# Altium schematic symbol library DrumPad.SCHLIB: 35 symbols
Pins are listed as number, name and electrical type; pins without a type are passive.

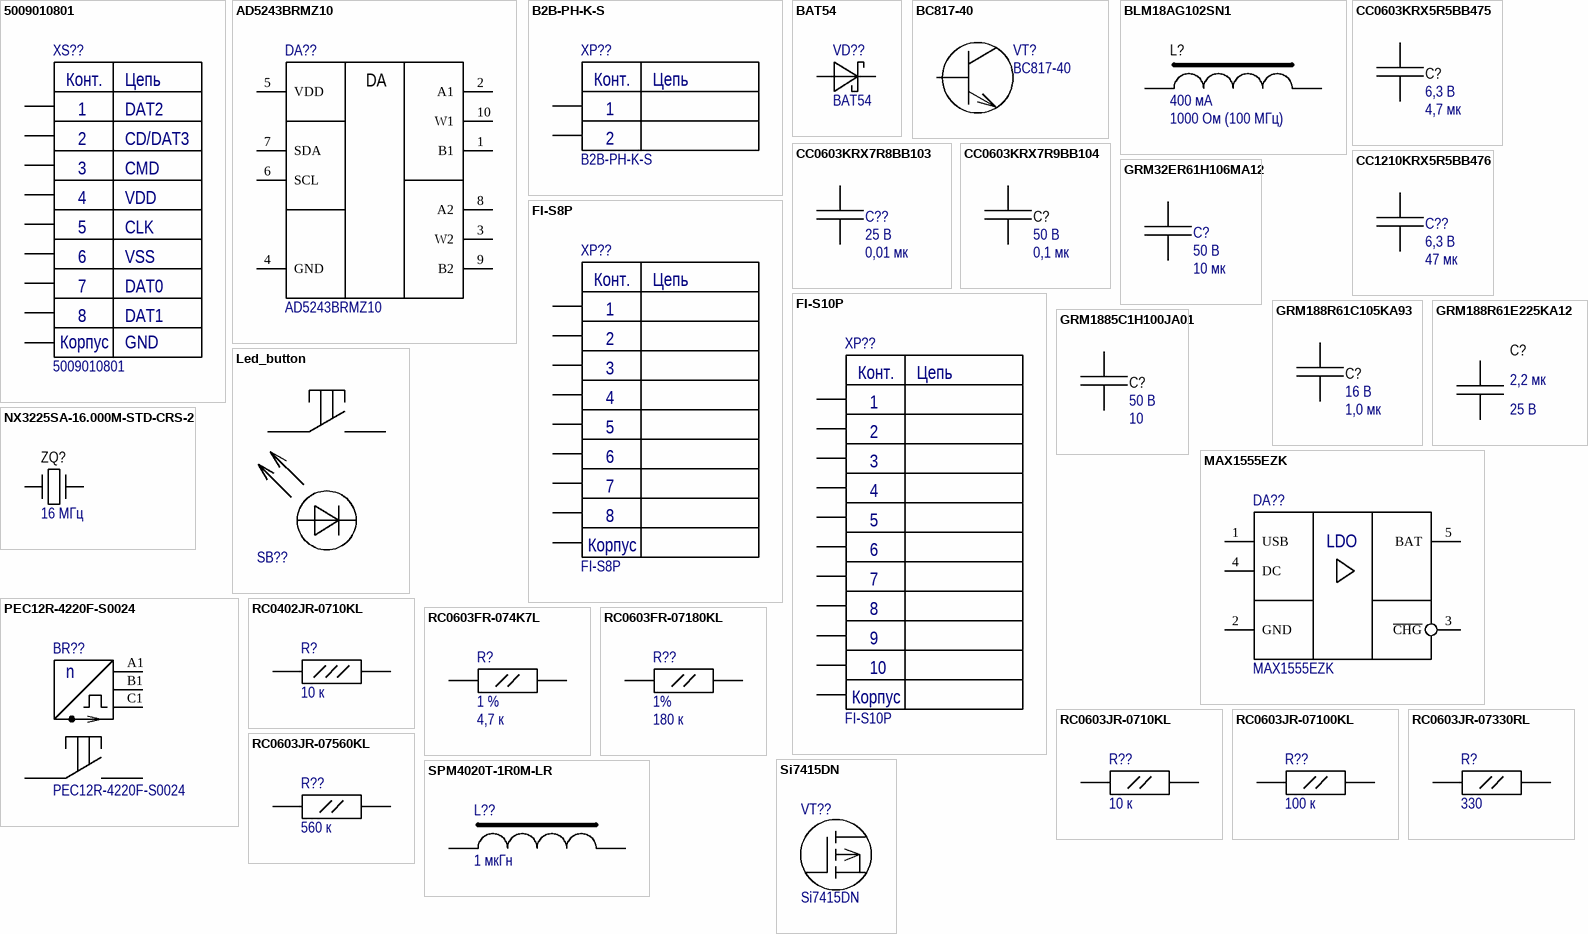
[diagram p0: symbols 5009010801 to SPM4020T-1R0M-LR]

## 5009010801
designator XS??
1.10mm Pitch TransFlash Memory Card Connector, Hinge Type, Round Corner Top; Manufacturer: Molex; Connector type: Разъем MicroSD на плату; Number of contacts: 11; Type: Разъем
footprint MOLEX 5009010801 (Molex microSD connector)
pins: 0, 1, 2, 3, 4, 5, 6, 7, 8
text: Конт.; Цепь; DAT2; CD/DAT3; CMD; VDD; CLK; VSS; DAT0; DAT1; Корпус; GND

## AD5243BRMZ10
designator DA??
2-channel, 256-position potentiometers; Manufacturer: Analog Devices; Supply voltage: 2.7... 5.5 В; Output current: 1 А; End-to-end resistance: 10 кОм; Type: Цифровой потенциометр; Temperature range: -40 ... 125 °C
footprint MSOP-10 (10-Lead Mini Small Outline Package)
pins: 1 B1, 2 A1, 3 W2, 4 GND, 5 VDD, 6 SCL, 7 SDA, 8 A2, 9 B2, 10 W1
text: DA

## B2B-PH-K-S
designator XP??
PH connector; Manufacturer: JST; Type: Вилка на плату
footprint B2B-PH-K-S (PH connector)
pins: 1, 2
text: Конт.; Цепь

## BAT54
designator VD??
Schottky Diode; Manufacturer: Fairchild Semiconductor; Type: Диод Шоттки; Max forward average current: 200 мА; Max reverse voltage: 30 В; Forward voltage: 0,8 В; Specification: ЭКБ ИП; Max forward surge current: 600 мА; Temperature range: -55 ... 150 °C
footprint SOT-23
pins: 1 A, 2 NC hidden, 3 C

## BC817-40
designator VT?
NPN general-purpose transistor; Manufacturer: NXP; Structure: n-p-n; Type: Транзистор биполярный; hFE: 250 ... 600; Max collector-emitter voltage: 45 В; Max collector-base voltage: 50 В; Max emitter-base voltage: 5 В; Max collector current: 0,5 А; Max collector peak current: 1 А; Power dissitipation: 0,25 Вт; fT: 100 МГц; Collector-emitter saturation voltage: 0,7 В; Base-emitter on voltage: 1,2 В; Specitication: ЭКБ ИП; Collector-base сapacitance: 3 пФ; Complement: BC807-40; Temperature range: -65 ... 150 °C
footprint SOT-23
pins: 1 B, 2 E, 3 C

## BLM18AG102SN1
designator L?  value 1000 Ом (100 МГц)  Rated current: 400 мА  (hidden comment: BLM18AG102SN1)
Chip Ferrite Bead; Manufacturer: Murata Manufacturing; Tolerance: 25%; DC resistance: 500 мОм; Type: Ферритовая бусина; Size: 0603; Temperature range: -55 ... 125 °C
footprint FB_0603_Manual_mount (SMD 0603)
footprint FB_0603_Auto_mount (SMD 0603)
pins: 1, 2

## CC0603KRX5R5BB475
designator C?  value 4,7 мк  Rated voltage: 6,3 В  (hidden comment: CC0603KRX5R5BB475)
Surface-mount Ceramic Multilayer Capacitor; Manufacturer: YAGEO; Tolerance: 10 %; Temperature coefficient: ±15 %; Type: Конденсатор керамический; TC: X5R; Size: 0603; Temperature range: -55 ... 85 °C
footprint C_0603_Auto_mount
footprint C_0603_Manual_mount
pins: 1, 2

## CC0603KRX7R8BB103
designator C??  value 0,01 мк  Rated voltage: 25 В  (hidden comment: CC0603KRX7R8BB103)
Surface-mount Ceramic Multilayer Capacitor; Manufacturer: YAGEO; Tolerance: 10 %; Temperature coefficient: ±15 %; Type: Конденсатор керамический; TC: X7R; Size: 0603; Temperature range: -55 ... 125 °C
footprint C_0603_Auto_mount
footprint C_0603_Manual_mount
pins: 1, 2

## CC0603KRX7R9BB104
designator C?  value 0,1 мк  Rated voltage: 50 В  (hidden comment: CC0603KRX7R9BB104)
Surface-mount Ceramic Multilayer Capacitor; Manufacturer: YAGEO; Tolerance: 10 %; Temperature coefficient: ±15 %; Type: Конденсатор керамический; TC: X7R; Size: 0603; Temperature range: -55 ... 125 °C
footprint C_0603_Auto_mount
footprint C_0603_Manual_mount
pins: 1, 2

## CC1210KRX5R5BB476
designator C??  value 47 мк  Rated voltage: 6,3 В  (hidden comment: CC1210KRX5R5BB476)
Surface-mount Ceramic Multilayer Capacitor; Manufacturer: YAGEO; Tolerance: 10 %; Temperature coefficient: ±15 %; Type: Конденсатор керамический; TC: X5R; Size: 1210; Temperature range: -55 ... 85 °C
footprint C_1210_Auto_mount
footprint C_1210_Manual_mount
pins: 1, 2

## FI-S8P
designator XP??
FI connector; Manufacturer: JAE; Type: Вилка высокой плотности на плату
footprint FI-S8P (1.25mm-pitch 8-pin connector)
pins: 0, 1, 2, 3, 4, 5, 6, 7, 8
1 alternate drawing of the same symbol
text: Конт.; Цепь; Корпус

## FI-S10P
designator XP??
FI connector; Manufacturer: JAE; Type: Вилка высокой плотности на плату
footprint FI-S10P (1.25mm-pitch 10-pin connector)
pins: 0, 1, 2, 3, 4, 5, 6, 7, 8, 9, 10
1 alternate drawing of the same symbol
text: Конт.; Цепь; Корпус

## GRM32ER61H106MA12
designator C?  value 10 мк  Rated voltage: 50 В  (hidden comment: GRM32ER61H106MA12)
Chip Monolithic Ceramic Capacitor; Manufacturer: Murata Manufacturing; Tolerance: 0,2; Temperature coefficient: ±15 %; Type: Конденсатор керамический; TC: X5R; Size: 1210; Temperature range: -55 ... 85 °C
footprint C_1210_Auto_mount (SMD 1210)
footprint C_1210_Manual_mount (SMD 1210)
pins: 1, 2

## GRM188R61C105KA93
designator C?  value 1,0 мк  Rated voltage: 16 В  (hidden comment: GRM188R61C105KA93)
Chip Monolithic Ceramic Capacitor; Manufacturer: Murata Manufacturing; Tolerance: 0,1; Temperature coefficient: ±15 %; Type: Конденсатор керамический; TC: X5R; Size: 0603; Temperature range: -55 ... 85 °C
footprint C_0603_Auto_mount
footprint C_0603_Manual_mount
pins: 1, 2

## GRM188R61E225KA12
designator C?  value 2,2 мк  Rated voltage: 25 В  (hidden comment: GRM188R61E225KA12)
Chip Monolithic Ceramic Capacitor; Manufacturer: Murata Manufacturing; Tolerance: 0,1; Temperature coefficient: ±15 %; Type: Конденсатор керамический; TC: X5R; Size: 0603; Temperature range: -55 ... 85 °C
footprint C_0603_Auto_mount
footprint C_0603_Manual_mount
pins: 1, 2

## GRM1885C1H100JA01
designator C?  value 10  Rated voltage: 50 В  (hidden comment: GRM1885C1H100JA01)
Chip Monolithic Ceramic Capacitor; Manufacturer: Murata Manufacturing; Tolerance: 0,05; Temperature coefficient: ±30 ppm/°C; Type: Конденсатор керамический; TC: C0G; Size: 0603; Temperature range: -55 ... 125 °C
footprint C_0603_Auto_mount
footprint C_0603_Manual_mount
pins: 1, 2

## Led_button
designator SB??  (value not drawn)
Кнопка с встроенным светодиодом; Manufacturer: NONAME; Junction resistance: 100 мОм; Rated voltage: 12 В; Rated current: 50 мА; Life cycles: 100000; Type: Выключатель кнопочный с самовозвратом
footprint Led_button (Кнопка с встроеным светодиодом)
pins: 1, 2, 3, 4

## MAX1555EZK
designator DA??
1S Li-Po/Li-Ion charger; Manufacturer: maxim integrated; Input voltage: 3,7 ... 7 В; Output current: DC280/USB90; Battery type: Li-Ion/Li-Poly; Number of cells: 1; Type: Контроллер АКБ; Temperature range: -40 ... 85 °C
footprint SOT-23-5 (SOT-23)
pins: 1 USB, 2 GND, 3 ~{CHG}, 4 DC, 5 BAT
text: LDO

## NX3225SA-16.000M-STD-CRS-2
designator ZQ?  value 16 МГц  (hidden comment: NX3225SA-16.000M-STD-CRS-2)
QUARTZ CRYSTAL; Manufacturer: NDK; Load capacitance: 8 пФ; Frequency stability: ±15 ppm; Type: Кварцевый резонатор; Temperature range: -40 ... 125 °C
footprint NX3225SA
pins: 1 XI, 2 NC hidden, 3 XO, 4 NC hidden

## PEC12R-4220F-S0024
designator BR??
Encoder; Manufacturer: /Укажите компанию-производителя/; Num of pulses: 24; Type: Энкодер инкрементальный; Num of detends: 24
footprint PEC12R4220FS0024
pins: 1, 2, A1, B1, C1
text: n

## RC0402JR-0710KL
designator R?  value 10 к  (hidden comment: RC0402JR-0710KL)
General Purpose Chip Resistor; Manufacturer: YAGEO; Tolerance: 5 %; Power dissitipation: 0,0625 Вт; Temperature coefficient: ±100 ppm/°C; Size: 0402; Temperature range: -55 ... 155 °C; Type: Резистор постоянный; Part Number: RC0402JR-0710KL
footprint R_0402_Auto_mount
footprint R_0402_Manual_mount
pins: 1, 2

## RC0603FR-074K7L
designator R?  value 4,7 к  Tolerance: 1 %  (hidden comment: RC0603FR-074K7L)
General Purpose Chip Resistor; Manufacturer: YAGEO; Power dissipation: 0,1 Вт; Temperature coefficient: ±100 ppm/°C; Size: 0603; Temperature range: -55 ... 155 °C; Type: Резистор постоянный; Part Number: RC0603FR-074K7L
footprint R_0603_Manual_mount (SMD 0603)
footprint R_0603_Auto_mount
pins: 1, 2

## RC0603FR-07180KL
designator R??  value 180 к  Tolerance: 1%  (hidden comment: RC0603FR-07180KL)
General Purpose Chip Resistor; Manufacturer: YAGEO; Power dissitipation: 0,1 Вт; Temperature coefficient: ±100 ppm/°C; Size: 0603; Temperature range: -55 ... 155 °C; Type: Резистор постоянный
footprint R_0603_Auto_mount (SMD 0603)
footprint R_0603_Manual_mount (SMD 0603)
pins: 1, 2

## RC0603JR-0710KL
designator R??  value 10 к  (hidden comment: RC0603JR-0710KL)
General Purpose Chip Resistor; Manufacturer: YAGEO; Tolerance: 5 %; Power dissitipation: 0,1 Вт; Temperature coefficient: ±100 ppm/°C; Size: 0603; Temperature range: -55 ... 155 °C; Type: Резистор постоянный
footprint R_0603_Auto_mount
footprint R_0603_Manual_mount
pins: 1, 2

## RC0603JR-07100KL
designator R??  value 100 к  (hidden comment: RC0603JR-07100KL)
General Purpose Chip Resistor; Manufacturer: YAGEO; Tolerance: 5 %; Power dissitipation: 0,1 Вт; Temperature coefficient: ±100 ppm/°C; Size: 0603; Temperature range: -55 ... 155 °C; Type: Резистор постоянный
footprint R_0603_Auto_mount
footprint R_0603_Manual_mount
pins: 1, 2

## RC0603JR-07330RL
designator R?  value 330  (hidden comment: RC0603JR-07330RL)
General Purpose Chip Resistor; Manufacturer: YAGEO; Tolerance: 5 %; Power dissitipation: 0,1 Вт; Temperature coefficient: ±100 ppm/°C; Size: 0603; Temperature range: -55 ... 155 °C; Type: Резистор постоянный
footprint R_0603_Auto_mount (SMD 0603)
footprint R_0603_Manual_mount (SMD 0603)
pins: 1, 2

## RC0603JR-07560KL
designator R??  value 560 к  (hidden comment: RC0603JR-07560KL)
General Purpose Chip Resistor; Manufacturer: YAGEO; Tolerance: 5 %; Power dissitipation: 0,1 Вт; Temperature coefficient: ±100 ppm/°C; Size: 0603; Temperature range: -55 ... 155 °C; Type: Резистор постоянный
footprint R_0603_Auto_mount
footprint R_0603_Manual_mount
pins: 1, 2

## Si7415DN
designator VT??
P-Channel Enhancement Mode Field Effect Transistor; Manufacturer: Vishay; Structure: Индуцированный канал p-типа; Type: Транзистор полевой с изолированным затвором; Max gate-to-source voltage: 20 В; Drain-to-source breakdown voltage: 60 В; Gate threshold voltage: 3В; Max continuous drain current: 5.7A; Max pulsed drain current: 20 A; Power dissitipation: 3.8 Вт; Input capacitance: 600 пФ; Output capacitance: 70пФ; Turn-on time: 50 нс; Reverse transfer capacitance: 50 пФ; Rds: 0.065 Ом; Temperature range: -55 ... 170°C; Turn-off time: 50 нс
footprint PowerPAK-1212-8
pins: D, G, S

## SPM4020T-1R0M-LR
designator L??  value 1 мкГн  (hidden comment: SPM4020T-1R0M-LR)
Shielded Power Inductor; Manufacturer: TDK; Tolerance: 20%; DC resistance: 28мОм; Type: Индуктивность силовая; Test frequency: 100КГц; Rated current: 9 А; Saturation current: 5.6 А; Size: 4.4x4.1x2.0 мм; Temperature range: -40 ... 125°C
footprint SRR4028
pins: 1, 2

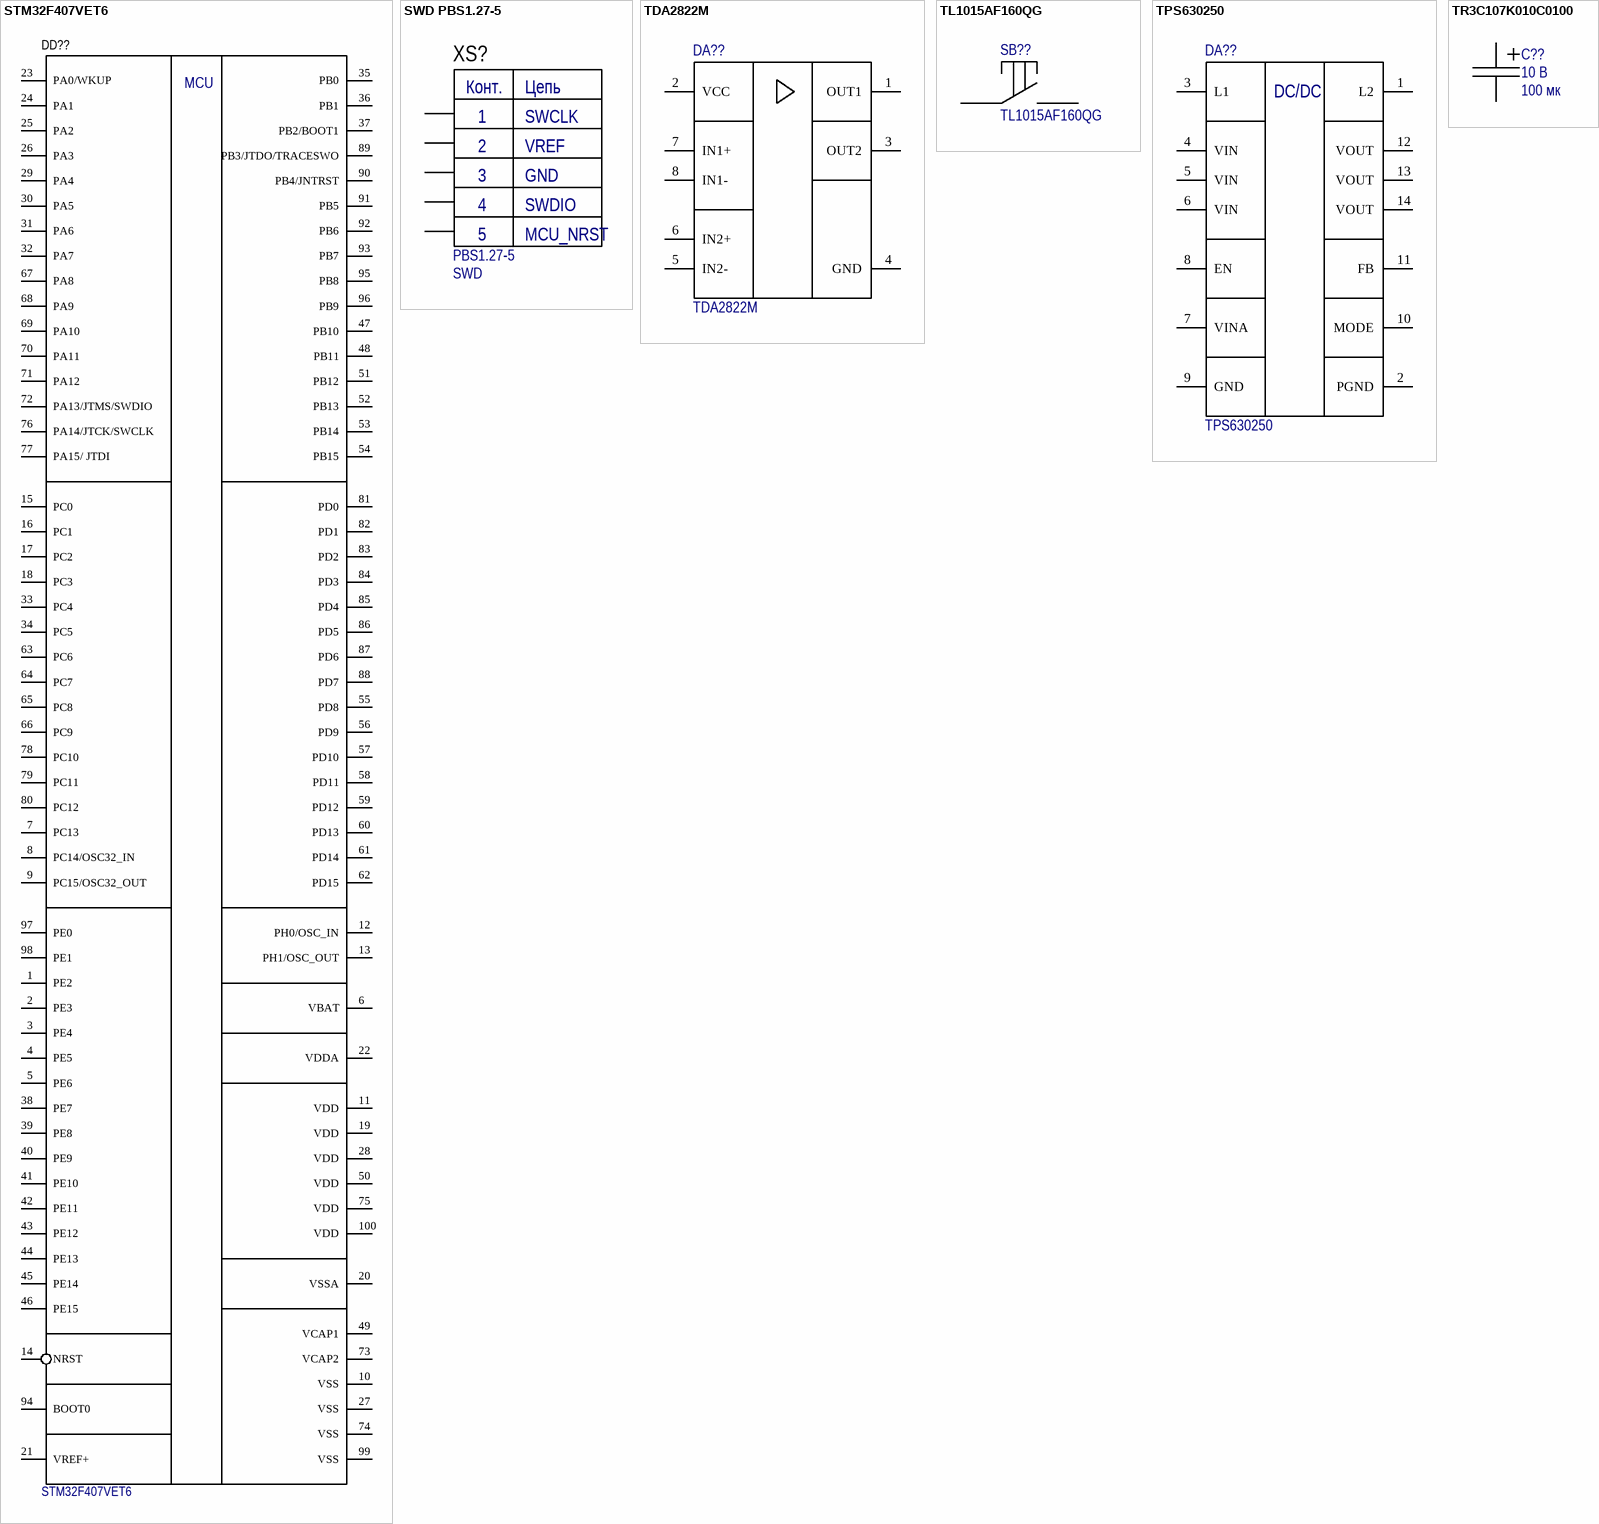
[diagram p1: symbols STM32F407VET6 to TR3C107K010C0100]

## STM32F407VET6
designator DD??
ARM Cortex-M4 32b MCU+FPU, 210DMIPS, up to 1MB Flash/192+4KB RAM,  crypto, USB OTG HS/FS, Ethernet, 17 TIMs, 3 ADCs, 15 comm. interfaces & camera; Manufacturer: STMicroelectronics; Flash: 1024 кбайт; SRAM: 192+4 кбайт; Timers: 10+2+2; RTC: Есть; SPI/I2S: 3/2; I2C: 3; USART/UART: 4/2; CAN: 2; Ethernet: Нет; ADC resolution: 12 бит; ADC channels: 16; CPU frequency: 168 МГц; Supply voltage: 1,8 ... 3,6 В; Type: Микроконтроллер; Processor architecture: ARM Cortex-M4; USB OTG FS: Есть; USB OTG HS: Есть; SDIO: Есть; Camera interface: Нет; Cryptography: Есть; ADC: 3; DAC resolution: 12 бит; DAC: 2; Temperature range: -40 ... 85 °C; FSMC: Есть; Random number generator: Есть; FPU: Есть; DSP: Есть; DMA: Есть; MPU: Есть
footprint LQFP-100 (14 x 14 mm 100 pin low-profile quad flat package outline)
pins: 1 PE2, 2 PE3, 3 PE4, 4 PE5, 5 PE6, 6 VBAT, 7 PC13, 8 PC14/OSC32_IN, 9 PC15/OSC32_OUT, 10 VSS, 11 VDD, 12 PH0/OSC_IN, 13 PH1/OSC_OUT, 14 NRST, 15 PC0, 16 PC1, 17 PC2, 18 PC3, 19 VDD, 20 VSSA, 21 VREF+, 22 VDDA, 23 PA0/WKUP, 24 PA1, 25 PA2, 26 PA3, 27 VSS, 28 VDD, 29 PA4, 30 PA5, 31 PA6, 32 PA7, 33 PC4, 34 PC5, 35 PB0, 36 PB1, 37 PB2/BOOT1, 38 PE7, 39 PE8, 40 PE9, 41 PE10, 42 PE11, 43 PE12, 44 PE13, 45 PE14, 46 PE15, 47 PB10, 48 PB11, 49 VCAP1, 50 VDD, 51 PB12, 52 PB13, 53 PB14, 54 PB15, 55 PD8, 56 PD9, 57 PD10, 58 PD11, 59 PD12, 60 PD13, 61 PD14, 62 PD15, 63 PC6, 64 PC7, 65 PC8, 66 PC9, 67 PA8, 68 PA9, 69 PA10, 70 PA11, 71 PA12, 72 PA13/JTMS/SWDIO, 73 VCAP2, 74 VSS, 75 VDD, 76 PA14/JTCK/SWCLK, 77 PA15/ JTDI, 78 PC10, 79 PC11, 80 PC12, 81 PD0, 82 PD1, 83 PD2, 84 PD3, 85 PD4, 86 PD5, 87 PD6, 88 PD7, 89 PB3/JTDO/TRACESWO, 90 PB4/JNTRST, 91 PB5, 92 PB6, 93 PB7, 94 BOOT0, 95 PB8, 96 PB9, 97 PE0, 98 PE1, 99 VSS, 100 VDD
text: MCU

## SWD PBS1.27-5
designator XS?, comment PBS1.27-5  Interface: SWD
PBS connector; Manufacturer: NONAME; Connector type: Розетка на плату; Number of contacts: 5; Type: Разъем штыревой
footprint PBS1.27-5 (1.27mm-step 5-pin connector)
pins: 1, 2, 3, 4, 5
text: Конт.; Цепь; SWCLK; VREF; GND; SWDIO; MCU_NRST

## TDA2822M
designator DA??
Dual audio power amplifier; Manufacturer: ST; Output current: 1 А; Supply voltage: 1,8 В ... 15 В; Temperature range: -40 ... 150 °C
footprint SO-8 (8-Lead Standard Small Outline Narrow Body Package)
pins: 1 OUT1, 2 VCC, 3 OUT2, 4 GND, 5 IN2-, 6 IN2+, 7 IN1+, 8 IN1-

## TL1015AF160QG
designator SB??
SMD pushbutton; Manufacturer: E-SWITCH; Junction resistance: 100 мОм; Rated voltage: 12 В; Rated current: 50 мА; Life cycles: 50000; Type: Выключатель кнопочный с самовозвратом
footprint TL1015AF160QG (SMD button)
pins: 1, 2

## TPS630250
designator DA??
High efficiency, low quiescent current buck-boost converter; Manufacturer: TI; Output voltage: 3,3 В; Input voltage: 2,3 ... 5,5 В; Type: Импульсный преобразователь напряжения с гальванической развязкой; Temperature range: -40 ... 85°C
footprint VQFN-14
pins: 1 L2, 2 PGND, 3 L1, 4 VIN, 5 VIN, 6 VIN, 7 VINA, 8 EN, 9 GND, 10 MODE, 11 FB, 12 VOUT, 13 VOUT, 14 VOUT
text: DC/DC

## TR3C107K010C0100
designator C??  value 100 мк  Rated voltage: 10 В  (hidden comment: TR3C107K010C0100)
Solid Tantalum Surface Mount Chip Capacitor, TANTAMOUNT, Molded Case, Low ESR; Manufacturer: VISHAY; Tolerance: 10%; Type: Конденсатор танталовый; ESR: 100 мОм; Size: C; Temperature range: -55 ... 85 °C
footprint C_Tan_C_Auto_mount (Tantalium capacitor)
footprint C_Tan_C_Manual_mount (Tantalium capacitor)
pins: 1, 2